# Altium schematic symbol library HLK-7628N.SchLib: 1 symbol
Pins are listed as number, name and electrical type; pins without a type are passive.

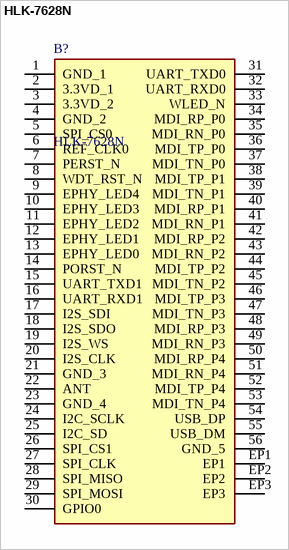
[diagram p0: symbol HLK-7628N]

## HLK-7628N
designator B?
WIFI Modules RoHS; Manufacturer_Name: Hi-Link; Geometry.Height: 2.8mm; Manufacturer_Part_Number: HLK-7628N; Mouser Part Number: *; Mouser Price/Stock: *; Arrow Part Number: *; Arrow Price/Stock: *; Datasheet Link: https://datasheet.lcsc.com/szlcsc/1907260930_HI-LINK-HLK-7628N_C209920.pdf
footprint HLK7628N
pins: 1 GND_1, 2 3.3VD_1, 3 3.3VD_2, 4 GND_2, 5 SPI_CS0, 6 REF_CLK0, 7 PERST_N, 8 WDT_RST_N, 9 EPHY_LED4, 10 EPHY_LED3, 11 EPHY_LED2, 12 EPHY_LED1, 13 EPHY_LED0, 14 PORST_N, 15 UART_TXD1, 16 UART_RXD1, 17 I2S_SDI, 18 I2S_SDO, 19 I2S_WS, 20 I2S_CLK, 21 GND_3, 22 ANT, 23 GND_4, 24 I2C_SCLK, 25 I2C_SD, 26 SPI_CS1, 27 SPI_CLK, 28 SPI_MISO, 29 SPI_MOSI, 30 GPIO0, 31 UART_TXD0, 32 UART_RXD0, 33 WLED_N, 34 MDI_RP_P0, 35 MDI_RN_P0, 36 MDI_TP_P0, 37 MDI_TN_P0, 38 MDI_TP_P1, 39 MDI_TN_P1, 40 MDI_RP_P1, 41 MDI_RN_P1, 42 MDI_RP_P2, 43 MDI_RN_P2, 44 MDI_TP_P2, 45 MDI_TN_P2, 46 MDI_TP_P3, 47 MDI_TN_P3, 48 MDI_RP_P3, 49 MDI_RN_P3, 50 MDI_RP_P4, 51 MDI_RN_P4, 52 MDI_TP_P4, 53 MDI_TN_P4, 54 USB_DP, 55 USB_DM, 56 GND_5, EP1, EP2, EP3